# EAGLE library part HC05 (library CAN_Shiel_Lib)
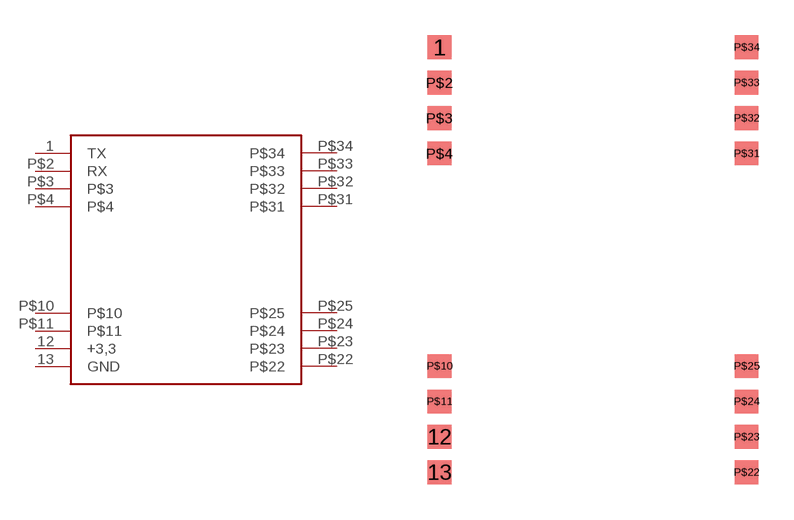
[diagram p2: symbol with the pads of HC05; footprint HC05]

Designator prefix -

## HC05  [HC05]
1  TX
12  +3,3
13  GND
P$2  RX
P$3  P$3
P$4  P$4
P$10  P$10
P$11  P$11
P$22  P$22
P$23  P$23
P$24  P$24
P$25  P$25
P$31  P$31
P$32  P$32
P$33  P$33
P$34  P$34

## Footprint HC05 (pad centres in mm)
smd 1 x 1: 1 0,18; 12 0,1.5; 13 0,0; P$2 0,16.5; P$3 0,15; P$4 0,13.5; P$10 0,4.5; P$11 0,3; P$22 13,0; P$23 13,1.5; P$24 13,3; P$25 13,4.5; P$31 13,13.5; P$32 13,15; P$33 13,16.5; P$34 13,18